# EAGLE library part XBEE_SMT (library UBCSolar)
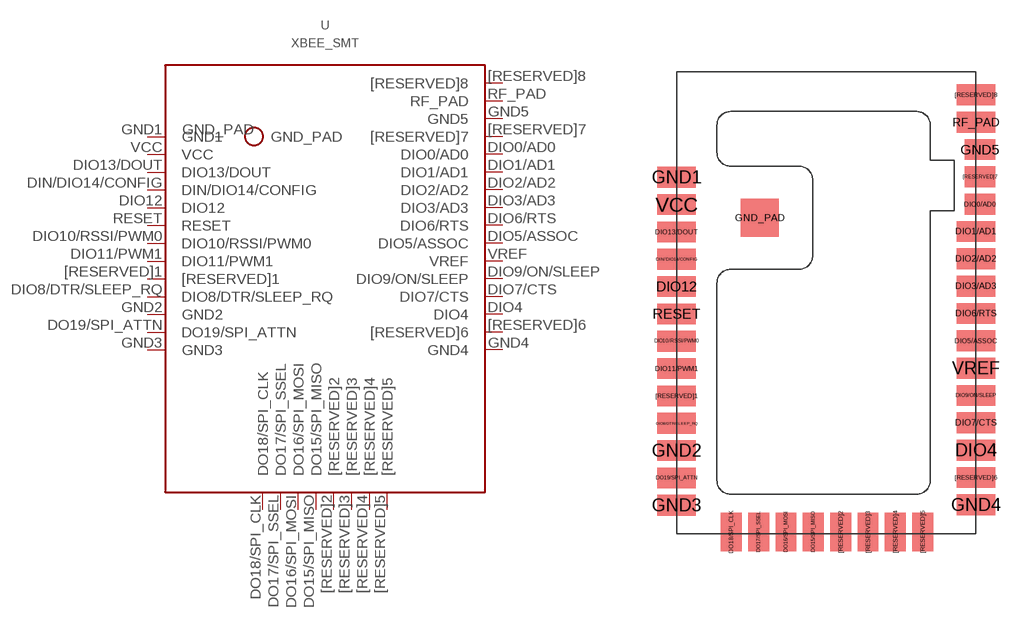
[diagram p23: symbol with the pads of XBEE_SMT; footprint XBEE_SMT]

Designator prefix -

## XBEE_SMT  [XBEE_SMT]
[RESERVED]1  [RESERVED]1
[RESERVED]2  [RESERVED]2
[RESERVED]3  [RESERVED]3
[RESERVED]4  [RESERVED]4
[RESERVED]5  [RESERVED]5
[RESERVED]6  [RESERVED]6
[RESERVED]7  [RESERVED]7
[RESERVED]8  [RESERVED]8
DIN/DIO14/CONFIG  DIN/DIO14/CONFIG
DIO0/AD0  DIO0/AD0
DIO1/AD1  DIO1/AD1
DIO2/AD2  DIO2/AD2
DIO3/AD3  DIO3/AD3
DIO4  DIO4
DIO5/ASSOC  DIO5/ASSOC
DIO6/RTS  DIO6/RTS
DIO7/CTS  DIO7/CTS
DIO8/DTR/SLEEP_RQ  DIO8/DTR/SLEEP_RQ
DIO9/ON/SLEEP  DIO9/ON/SLEEP
DIO10/RSSI/PWM0  DIO10/RSSI/PWM0
DIO11/PWM1  DIO11/PWM1
DIO12  DIO12
DIO13/DOUT  DIO13/DOUT
DO15/SPI_MISO  DO15/SPI_MISO
DO16/SPI_MOSI  DO16/SPI_MOSI
DO17/SPI_SSEL  DO17/SPI_SSEL
DO18/SPI_CLK  DO18/SPI_CLK
DO19/SPI_ATTN  DO19/SPI_ATTN
GND1  GND1
GND2  GND2
GND3  GND3
GND4  GND4
GND5  GND5
GND_PAD  GND_PAD
RESET  RESET
RF_PAD  RF_PAD
VCC  VCC
VREF  VREF

## Footprint XBEE_SMT (pad centres in mm)
smd 2.8 x 1.52: [RESERVED]1 -10.95,-6.81; [RESERVED]6 10.95,-12.78; [RESERVED]8 10.95,15.22; DIN/DIO14/CONFIG -10.95,3.19; DIO1/AD1 10.95,5.22; DIO2/AD2 10.95,3.22; DIO3/AD3 10.95,1.22; DIO4 10.95,-10.78; DIO5/ASSOC 10.95,-2.78; DIO6/RTS 10.95,-0.78; DIO7/CTS 10.95,-8.78; DIO8/DTR/SLEEP_RQ -10.95,-8.81; DIO9/ON/SLEEP 10.95,-6.78; DIO10/RSSI/PWM0 -10.95,-2.81; DIO11/PWM1 -10.95,-4.81; DIO12 -10.95,1.19; DIO13/DOUT -10.95,5.19; DO19/SPI_ATTN -10.95,-12.81; GND1 -10.95,9.19; GND2 -10.95,-10.81; GND3 -10.95,-14.81; GND4 10.95,-14.78; RESET -10.95,-0.81; RF_PAD 10.95,13.22; VCC -10.95,7.19; VREF 10.95,-4.78
smd 1.52 x 2.8: [RESERVED]2 1.05,-16.76; [RESERVED]3 3.05,-16.76; [RESERVED]4 5.05,-16.76; [RESERVED]5 7.05,-16.76; DO15/SPI_MISO -0.95,-16.76; DO16/SPI_MOSI -2.95,-16.76; DO17/SPI_SSEL -4.95,-16.76; DO18/SPI_CLK -6.95,-16.76
smd 2.2 x 1.52: [RESERVED]7 11.25,9.22; DIO0/AD0 11.25,7.22; GND5 11.25,11.22
smd 2.79 x 2.79: GND_PAD -4.855,6.225